# EAGLE library part 87360-SCSI (library con-molex)
CONNECTOR input/output 3 in 1 combo connector wide SCSI, 2.00 mm, power, right angle
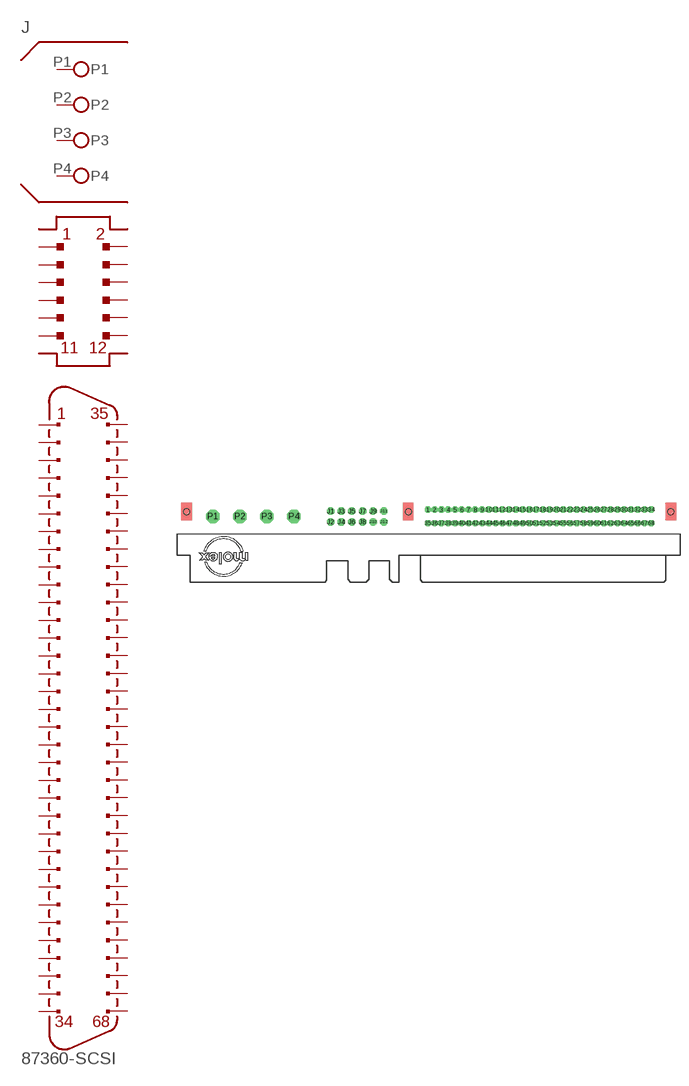
[diagram p16: symbol with the pads of 87360-SCSI; footprint 87360-SCSI]

Designator prefix J

## 87360-SCSI  [87360-SCSI]
1  1  pas
2  2  pas
3  3  pas
4  4  pas
5  5  pas
6  6  pas
7  7  pas
8  8  pas
9  9  pas
10  10  pas
11  11  pas
12  12  pas
13  13  pas
14  14  pas
15  15  pas
16  16  pas
17  17  pas
18  18  pas
19  19  pas
20  20  pas
21  21  pas
22  22  pas
23  23  pas
24  24  pas
25  25  pas
26  26  pas
27  27  pas
28  28  pas
29  29  pas
30  30  pas
31  31  pas
32  32  pas
33  33  pas
34  34  pas
35  35  pas
36  36  pas
37  37  pas
38  38  pas
39  39  pas
40  40  pas
41  41  pas
42  42  pas
43  43  pas
44  44  pas
45  45  pas
46  46  pas
47  47  pas
48  48  pas
49  49  pas
50  50  pas
51  51  pas
52  52  pas
53  53  pas
54  54  pas
55  55  pas
56  56  pas
57  57  pas
58  58  pas
59  59  pas
60  60  pas
61  61  pas
62  62  pas
63  63  pas
64  64  pas
65  65  pas
66  66  pas
67  67  pas
68  68  pas
J1  J1  pas
J2  J2  pas
J3  J3  pas
J4  J4  pas
J5  J5  pas
J6  J6  pas
J7  J7  pas
J8  J8  pas
J9  J9  pas
J10  J10  pas
J11  J11  pas
J12  J12  pas
P1  P1  pas
P2  P2  pas
P3  P3  pas
P4  P4  pas

## Footprint 87360-SCSI (pad centres in mm)
CONNECTOR input/output 3 in 1 combo connector wide SCSI, 2.00 mm, power, right angle
drill 0.7 pad 1.016 octagon: 1 0,1.27; 2 1.27,1.27; 3 2.54,1.27; 4 3.81,1.27; 5 5.08,1.27; 6 6.35,1.27; 7 7.62,1.27; 8 8.89,1.27; 9 10.16,1.27; 10 11.43,1.27; 11 12.7,1.27; 12 13.97,1.27; 13 15.24,1.27; 14 16.51,1.27; 15 17.78,1.27; 16 19.05,1.27; 17 20.32,1.27; 18 21.59,1.27; 19 22.86,1.27; 20 24.13,1.27; 21 25.4,1.27; 22 26.67,1.27; 23 27.94,1.27; 24 29.21,1.27; 25 30.48,1.27; 26 31.75,1.27; 27 33.02,1.27; 28 34.29,1.27; 29 35.56,1.27; 30 36.83,1.27; 31 38.1,1.27; 32 39.37,1.27; 33 40.64,1.27; 34 41.91,1.27; 35 0,-1.27; 36 1.27,-1.27; 37 2.54,-1.27; 38 3.81,-1.27; 39 5.08,-1.27; 40 6.35,-1.27; 41 7.62,-1.27; 42 8.89,-1.27; 43 10.16,-1.27; 44 11.43,-1.27; 45 12.7,-1.27; 46 13.97,-1.27; 47 15.24,-1.27; 48 16.51,-1.27; 49 17.78,-1.27; 50 19.05,-1.27; 51 20.32,-1.27; 52 21.59,-1.27; 53 22.86,-1.27; 54 24.13,-1.27; 55 25.4,-1.27; 56 26.67,-1.27; 57 27.94,-1.27; 58 29.21,-1.27; 59 30.48,-1.27; 60 31.75,-1.27; 61 33.02,-1.27; 62 34.29,-1.27; 63 35.56,-1.27; 64 36.83,-1.27; 65 38.1,-1.27; 66 39.37,-1.27; 67 40.64,-1.27; 68 41.91,-1.27
drill 0.9 octagon: J1 -18.28,1; J2 -18.28,-1; J3 -16.28,1; J4 -16.28,-1; J5 -14.28,1; J6 -14.28,-1; J7 -12.28,1; J8 -12.28,-1; J9 -10.28,1; J10 -10.28,-1; J11 -8.28,1; J12 -8.28,-1
drill 1 pad 2.54 octagon: P1 -40.38,0; P2 -35.3,0; P3 -30.22,0; P4 -25.14,0
hole 1.14 at -3.685,0.92
hole 1.14 at 45.595,0.92
hole 1.14 at -45.295,0.92